# Altium footprint library BUTTON.PcbLib: 1 footprints
Each footprint in its own frame and in the unit in brackets; x right, y up, seen from the top. Pads: shape width x height; smd on the part's side, far side on the other; paste and mask are expansions set on the pad; w line width, h text height; cw(c..) or ccw(c..) is an arc to the next point about the centre after c.
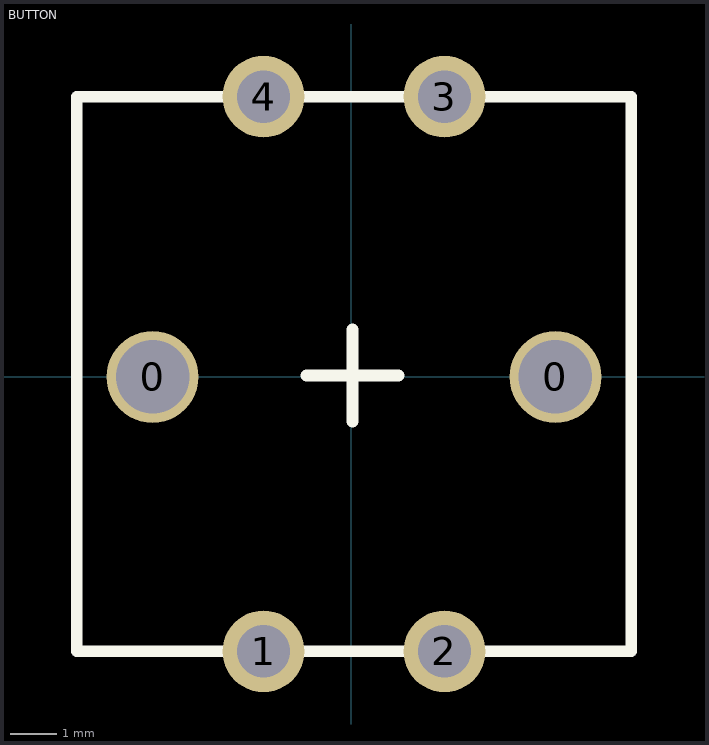
[diagram p0: the footprint, top view; thin cyan lines are the x and y axes]

## BUTTON [mil]
pads (6):
  round 78.74 hole 62.99: 0(-170,0) 0(175,0)
  round 70 hole 45: 1(-75,-235) 2(80,-235) 3(80,240) 4(-75,240)
Top Overlay:
  lines w10: -38.15,1.22 40.59,1.22 ; 1.22,-38.15 1.22,40.59 ; -235,-235 -235,240 240,240 240,-235 -235,-235
3D body: height 275.59, standoff 0, extent -235,-235 240,240
3D body: height 511.81, standoff 275.59, extent -236.22,-231.15 236.22,241.16